# Altium schematic symbol library Conn,Jack,TRS,3.5mm,Thru.Schlib: 1 symbol
Pins are listed as number, name and electrical type; pins without a type are passive.

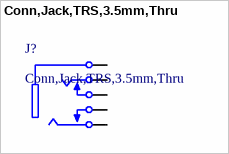
[diagram p0: symbol Conn,Jack,TRS,3.5mm,Thru]

## Conn,Jack,TRS,3.5mm,Thru
designator J?
3.50mm (0.141", 1/8", Mini Plug) - Headphone Phone Jack Stereo (3 Conductor, TRS) Connector Solder
pins: 1 S (power) "Sleeve (Ground)", 2 T "Tip", 3 R "Tip", 10 TS "Tip", 11 RS "Tip"